# Altium schematic symbol library SCH - MCU - STM32 - ST MICROELECTRONICS STM32G0C1C(C-E)TX LQFP48.SchLib: 1 symbol
Pins are listed as number, name and electrical type; pins without a type are passive.

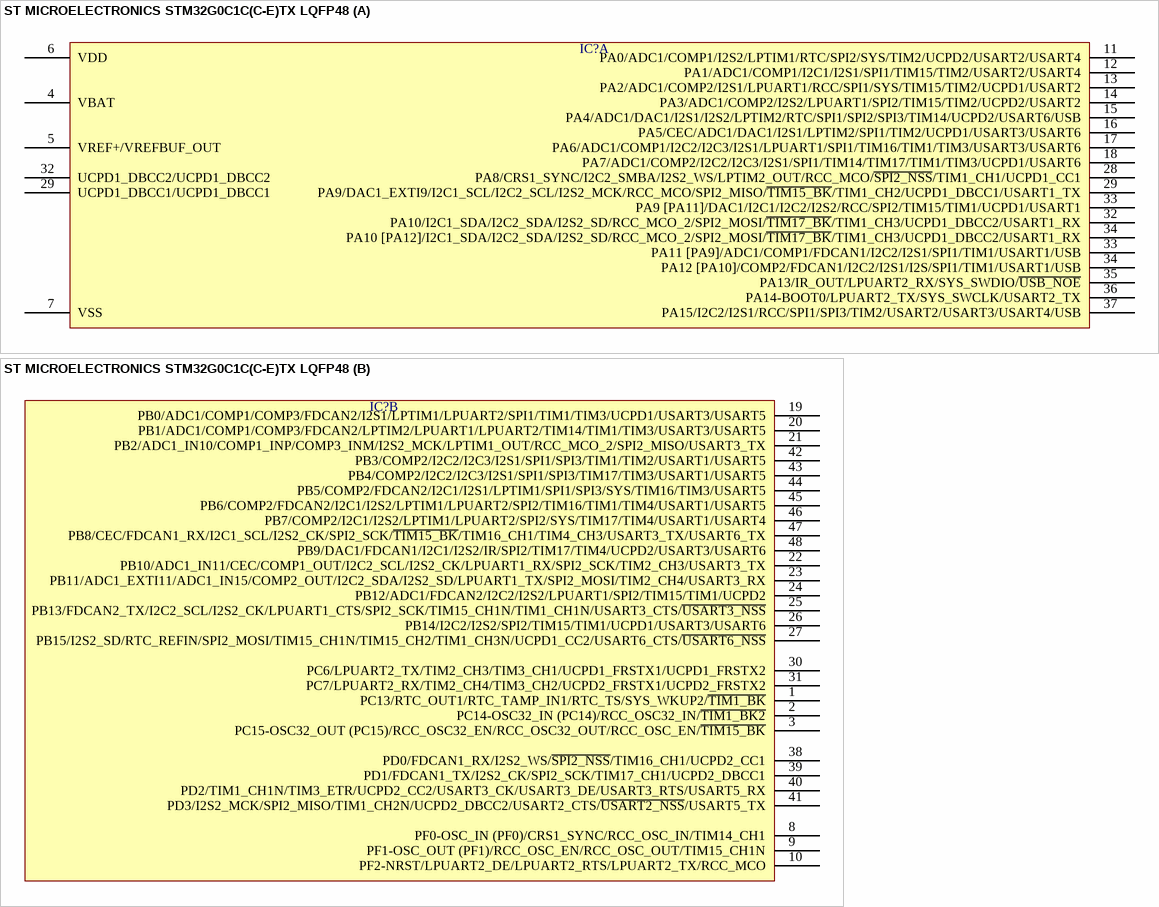
[diagram p0: symbol ST MICROELECTRONICS STM32G0C1C(C-E)TX LQFP48]

## ST MICROELECTRONICS STM32G0C1C(C-E)TX LQFP48
designator IC?  (value not drawn)
part A pins: 4 VBAT, 5 VREF+/VREFBUF_OUT, 6 VDD, 7 VSS, 11 PA0/ADC1/COMP1/I2S2/LPTIM1/RTC/SPI2/SYS/TIM2/UCPD2/USART2/USART4, 12 PA1/ADC1/COMP1/I2C1/I2S1/SPI1/TIM15/TIM2/USART2/USART4, 13 PA2/ADC1/COMP2/I2S1/LPUART1/RCC/SPI1/SYS/TIM15/TIM2/UCPD1/USART2, 14 PA3/ADC1/COMP2/I2S2/LPUART1/SPI2/TIM15/TIM2/UCPD2/USART2, 15 PA4/ADC1/DAC1/I2S1/I2S2/LPTIM2/RTC/SPI1/SPI2/SPI3/TIM14/UCPD2/USART6/USB, 16 PA5/CEC/ADC1/DAC1/I2S1/LPTIM2/SPI1/TIM2/UCPD1/USART3/USART6, 17 PA6/ADC1/COMP1/I2C2/I2C3/I2S1/LPUART1/SPI1/TIM16/TIM1/TIM3/USART3/USART6, 18 PA7/ADC1/COMP2/I2C2/I2C3/I2S1/SPI1/TIM14/TIM17/TIM1/TIM3/UCPD1/USART6, 28 PA8/CRS1_SYNC/I2C2_SMBA/I2S2_WS/LPTIM2_OUT/RCC_MCO/~{SPI2_NSS}/TIM1_CH1/UCPD1_CC1, 29 PA9/DAC1_EXTI9/I2C1_SCL/I2C2_SCL/I2S2_MCK/RCC_MCO/SPI2_MISO/~{TIM15_BK}/TIM1_CH2/UCPD1_DBCC1/USART1_TX, 29 UCPD1_DBCC1/UCPD1_DBCC1, 32 PA10/I2C1_SDA/I2C2_SDA/I2S2_SD/RCC_MCO_2/SPI2_MOSI/~{TIM17_BK}/TIM1_CH3/UCPD1_DBCC2/USART1_RX, 32 UCPD1_DBCC2/UCPD1_DBCC2, 33 PA9 [PA11]/DAC1/I2C1/I2C2/I2S2/RCC/SPI2/TIM15/TIM1/UCPD1/USART1, 33 PA11 [PA9]/ADC1/COMP1/FDCAN1/I2C2/I2S1/SPI1/TIM1/USART1/USB, 34 PA10 [PA12]/I2C1_SDA/I2C2_SDA/I2S2_SD/RCC_MCO_2/SPI2_MOSI/~{TIM17_BK}/TIM1_CH3/UCPD1_DBCC2/USART1_RX, 34 PA12 [PA10]/COMP2/FDCAN1/I2C2/I2S1/I2S/SPI1/TIM1/USART1/USB, 35 PA13/IR_OUT/LPUART2_RX/SYS_SWDIO/~{USB_NOE}, 36 PA14-BOOT0/LPUART2_TX/SYS_SWCLK/USART2_TX, 37 PA15/I2C2/I2S1/RCC/SPI1/SPI3/TIM2/USART2/USART3/USART4/USB
part B pins: 1 PC13/RTC_OUT1/RTC_TAMP_IN1/RTC_TS/SYS_WKUP2/~{TIM1_BK}, 2 PC14-OSC32_IN (PC14)/RCC_OSC32_IN/~{TIM1_BK2}, 3 PC15-OSC32_OUT (PC15)/RCC_OSC32_EN/RCC_OSC32_OUT/RCC_OSC_EN/~{TIM15_BK}, 8 PF0-OSC_IN (PF0)/CRS1_SYNC/RCC_OSC_IN/TIM14_CH1, 9 PF1-OSC_OUT (PF1)/RCC_OSC_EN/RCC_OSC_OUT/TIM15_CH1N, 10 PF2-NRST/LPUART2_DE/LPUART2_RTS/LPUART2_TX/RCC_MCO, 19 PB0/ADC1/COMP1/COMP3/FDCAN2/I2S1/LPTIM1/LPUART2/SPI1/TIM1/TIM3/UCPD1/USART3/USART5, 20 PB1/ADC1/COMP1/COMP3/FDCAN2/LPTIM2/LPUART1/LPUART2/TIM14/TIM1/TIM3/USART3/USART5, 21 PB2/ADC1_IN10/COMP1_INP/COMP3_INM/I2S2_MCK/LPTIM1_OUT/RCC_MCO_2/SPI2_MISO/USART3_TX, 22 PB10/ADC1_IN11/CEC/COMP1_OUT/I2C2_SCL/I2S2_CK/LPUART1_RX/SPI2_SCK/TIM2_CH3/USART3_TX, 23 PB11/ADC1_EXTI11/ADC1_IN15/COMP2_OUT/I2C2_SDA/I2S2_SD/LPUART1_TX/SPI2_MOSI/TIM2_CH4/USART3_RX, 24 PB12/ADC1/FDCAN2/I2C2/I2S2/LPUART1/SPI2/TIM15/TIM1/UCPD2, 25 PB13/FDCAN2_TX/I2C2_SCL/I2S2_CK/LPUART1_CTS/SPI2_SCK/TIM15_CH1N/TIM1_CH1N/USART3_CTS/~{USART3_NSS}, 26 PB14/I2C2/I2S2/SPI2/TIM15/TIM1/UCPD1/USART3/USART6, 27 PB15/I2S2_SD/RTC_REFIN/SPI2_MOSI/TIM15_CH1N/TIM15_CH2/TIM1_CH3N/UCPD1_CC2/USART6_CTS/~{USART6_NSS}, 30 PC6/LPUART2_TX/TIM2_CH3/TIM3_CH1/UCPD1_FRSTX1/UCPD1_FRSTX2, 31 PC7/LPUART2_RX/TIM2_CH4/TIM3_CH2/UCPD2_FRSTX1/UCPD2_FRSTX2, 38 PD0/FDCAN1_RX/I2S2_WS/~{SPI2_NSS}/TIM16_CH1/UCPD2_CC1, 39 PD1/FDCAN1_TX/I2S2_CK/SPI2_SCK/TIM17_CH1/UCPD2_DBCC1, 40 PD2/TIM1_CH1N/TIM3_ETR/UCPD2_CC2/USART3_CK/USART3_DE/USART3_RTS/USART5_RX, 41 PD3/I2S2_MCK/SPI2_MISO/TIM1_CH2N/UCPD2_DBCC2/USART2_CTS/~{USART2_NSS}/USART5_TX, 42 PB3/COMP2/I2C2/I2C3/I2S1/SPI1/SPI3/TIM1/TIM2/USART1/USART5, 43 PB4/COMP2/I2C2/I2C3/I2S1/SPI1/SPI3/TIM17/TIM3/USART1/USART5, 44 PB5/COMP2/FDCAN2/I2C1/I2S1/LPTIM1/SPI1/SPI3/SYS/TIM16/TIM3/USART5, 45 PB6/COMP2/FDCAN2/I2C1/I2S2/LPTIM1/LPUART2/SPI2/TIM16/TIM1/TIM4/USART1/USART5, 46 PB7/COMP2/I2C1/I2S2/LPTIM1/LPUART2/SPI2/SYS/TIM17/TIM4/USART1/USART4, 47 PB8/CEC/FDCAN1_RX/I2C1_SCL/I2S2_CK/SPI2_SCK/~{TIM15_BK}/TIM16_CH1/TIM4_CH3/USART3_TX/USART6_TX, 48 PB9/DAC1/FDCAN1/I2C1/I2S2/IR/SPI2/TIM17/TIM4/UCPD2/USART3/USART6